# EAGLE library part 43045-12 (library con-molex-micro-fit)
HEADER
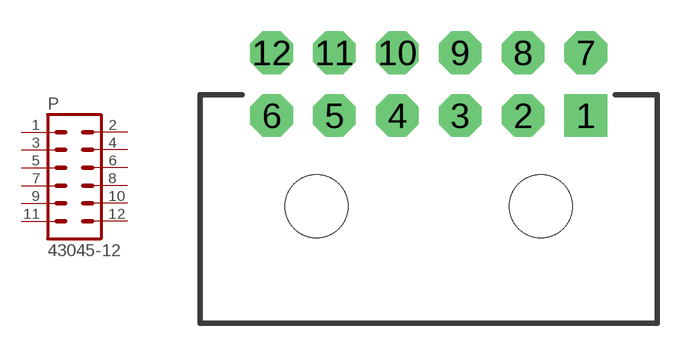
[diagram p3: symbol with the pads of 43045-12; footprint 43045-12]

Designator prefix P

## 43045-12  [43045-12]
1  1  pas
2  2  pas
3  3  pas
4  4  pas
5  5  pas
6  6  pas
7  7  pas
8  8  pas
9  9  pas
10  10  pas
11  11  pas
12  12  pas

## Footprint 43045-12 (pad centres in mm)
HEADER
drill 1.016 pad 2.032 square: 1 7.5,0
drill 1.016 pad 2.032 octagon: 2 4.5,0; 3 1.5,0; 4 -1.5,0; 5 -4.5,0; 6 -7.5,0; 7 7.5,3; 8 4.5,3; 9 1.5,3; 10 -1.5,3; 11 -4.5,3; 12 -7.5,3
hole 3 at -5.35,-4.32
hole 3 at 5.35,-4.32